# Altium footprint library Jamper.PcbLib: 16 footprints
Each footprint in its own frame and in the unit in brackets; x right, y up, seen from the top. Pads: shape width x height; smd on the part's side, far side on the other; paste and mask are expansions set on the pad; w line width, h text height; cw(c..) or ccw(c..) is an arc to the next point about the centre after c.
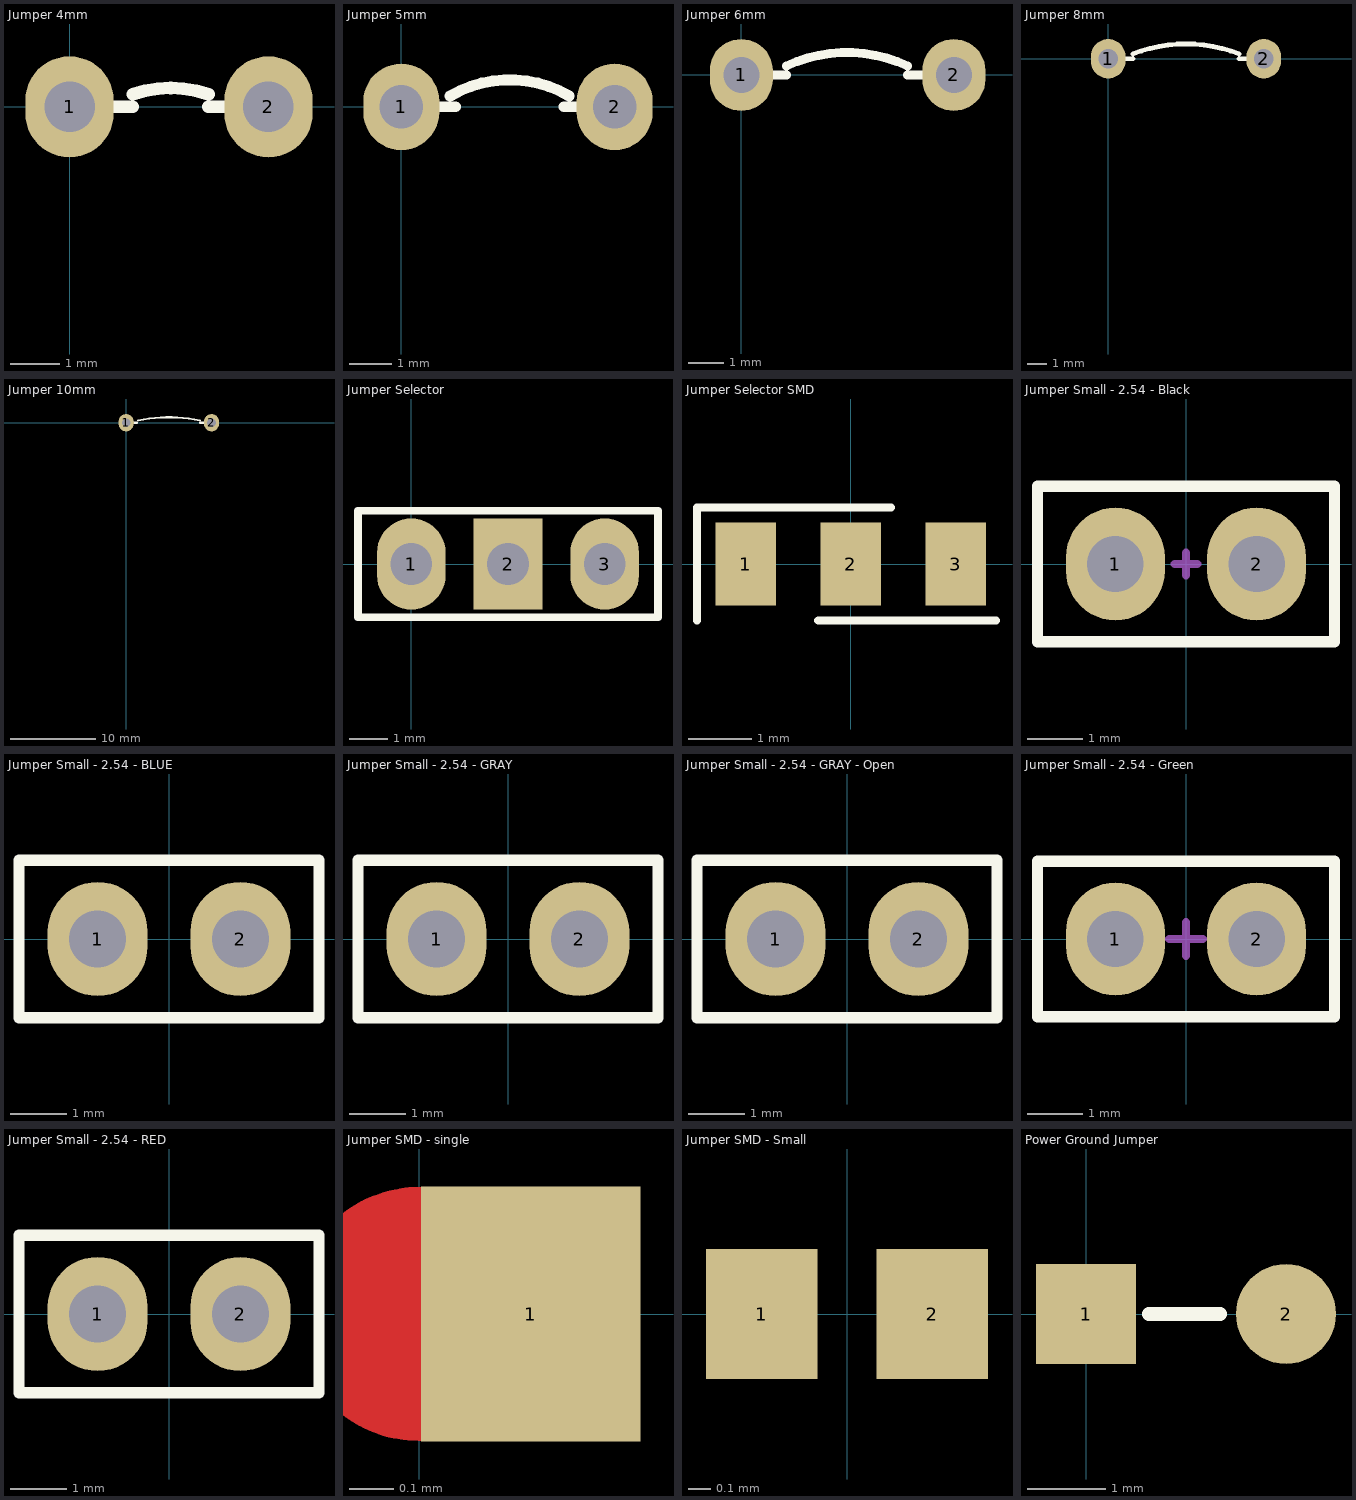
[diagram p0: the footprints below, top view; thin cyan lines are the x and y axes]

## Jumper 4mm [mil] "Designer Abbas Basereh"
height 300
pads (2):
  oval 70x80 hole 40: 1(0,0) 2(157.48,0)
Top Overlay:
  lines w10: 0,0 50,0 ; 50,10 cw(c80,-77.5) 110,10 ; 110,0 150,0
Mechanical 15:
  lines w5.91: -7.87,0 7.87,0 ; 0,-7.87 0,7.87

## Jumper 5mm [mil] "Designer Abbas Basereh"
height 300
pads (2):
  oval 70x80 hole 40: 1(0,0) 2(196.85,0)
Top Overlay:
  lines w10: 0,0 50,0 ; 45,10 cw(c100,-83.33) 155,10 ; 150,0 200,0
Mechanical 15:
  lines w5.91: -7.87,0 7.87,0 ; 0,-7.87 0,7.87

## Jumper 6mm [mil] "Designer Abbas Basereh"
height 300
pads (2):
  oval 70x80 hole 40: 1(0,0) 2(236.22,0)
Top Overlay:
  lines w10: 0,0 50,0 ; 50,10 cw(c117.5,-134.17) 185,10 ; 185,0 235,0
Mechanical 15:
  lines w5.91: -7.87,0 7.87,0 ; 0,-7.87 0,7.87

## Jumper 8mm [mil] "Designer Abbas Basereh"
height 300
pads (2):
  oval 70x80 hole 40: 1(0,0) 2(314.96,0)
Top Overlay:
  lines w10: 0,0 50,0 ; 50,10 cw(c157.5,-268.75) 265,10 ; 265,0 315,0
Mechanical 15:
  lines w5.91: -7.87,0 7.87,0 ; 0,-7.87 0,7.87

## Jumper 10mm [mil] "Designer Abbas Basereh"
height 300
pads (2):
  oval 70x80 hole 40: 1(0,0) 2(393.7,0)
Top Overlay:
  lines w10: 0,0 50,0 ; 55,10 cw(c197.5,-659.17) 340,10 ; 340,0 390,0
Mechanical 15:
  lines w5.91: -7.87,0 7.87,0 ; 0,-7.87 0,7.87

## Jumper Selector [mm]
pads (3):
  oval 1.8x2.4 hole 1.1: 1(0,0) 3(5.08,0)
  rect 1.8x2.4 hole 1.1: 2(2.54,0)
Top Overlay:
  lines w0.2: -1.4,-1.4 6.48,-1.4 6.48,1.4 -1.4,1.4 -1.4,-1.4
3D body "Header3.STEP": height 8.38, standoff -2.54, extent -1.245,-1.27 6.375,1.27
3D body: height 10.16, standoff 3.05, extent -1.245,-1.27 3.835,1.27

## Jumper Selector SMD [mm]
pads (3):
  rect 0.95x1.3 smd: 1(-1.65,0) 2(0,0) 3(1.65,0)
Top Overlay:
  lines w0.127: -2.413,-0.889 -2.413,0.889 0.635,0.889 ; -0.508,-0.889 2.286,-0.889
3D body "0805.STEP": height 0.6, standoff 0, extent -1.854,-0.635 0.178,0.635

## Jumper Small - 2.54 - Black [mil] "Designer Abbas Basereh"
height 300
pads (2):
  oval 70x80 hole 40: 1(-50,0) 2(50,0)
Top Overlay:
  lines w7.87: -105.12,-55.12 -105.12,55.12 105.12,55.12 105.12,-55.12 -105.12,-55.12
Mechanical 15:
  lines w5.91: -7.87,0 7.87,0 ; 0,-7.87 0,7.87 ; -106.3,-55.12 -106.3,55.12 106.3,55.12 106.3,-55.12 -106.3,-55.12
3D body "header02.STEP": height 330, standoff -100, extent -100,-50 100,50
3D body "jumper_akspt_g-red.STEP": height 337.4, standoff 102.36, extent -98.03,-48.03 98.04,48.04

## Jumper Small - 2.54 - BLUE [mil]
pads (2):
  oval 70x80 hole 40: 1(-50,0) 2(50,0)
Top Overlay:
  lines w7.87: -105.12,-55.12 -105.12,55.12 105.12,55.12 105.12,-55.12 -105.12,-55.12
3D body "header02.STEP": height 330, standoff -100, extent -100,-50 100,50
3D body "jumper_akspt_z-blue.STEP": height 337.4, standoff 102.36, extent -98.03,-48.03 98.03,48.03

## Jumper Small - 2.54 - GRAY [mil]
pads (2):
  oval 70x80 hole 40: 1(-50,0) 2(50,0)
Top Overlay:
  lines w7.87: -105.12,-55.12 105.12,-55.12 105.12,55.12 -105.12,55.12 -105.12,-55.12
3D body "jumper_akspt_g-grey.STEP": height 337.4, standoff 102.36, extent -98.03,-48.03 98.03,48.03
3D body "header02.STEP": height 330, standoff -100, extent -100,-50 100,50

## Jumper Small - 2.54 - GRAY - Open [mil]
pads (2):
  oval 70x80 hole 40: 1(-50,0) 2(50,0)
Top Overlay:
  lines w7.87: -105.12,-55.12 -105.12,55.12 105.12,55.12 105.12,-55.12 -105.12,-55.12
3D body "header02.STEP": height 330, standoff -100, extent -100,-50 100,50
3D body "jumper_akspt_g-grey.STEP": height 337.4, standoff 102.36, extent 2.75,-48.03 198.82,48.03

## Jumper Small - 2.54 - Green [mil] "Designer Abbas Basereh"
height 300
pads (2):
  oval 70x80 hole 40: 1(-50,0) 2(50,0)
Top Overlay:
  lines w7.87: -105.12,-55.12 105.12,-55.12 105.12,55.12 -105.12,55.12 -105.12,-55.12
Mechanical 15:
  lines w5.91: -11.81,0 11.81,0 ; 0,-11.81 0,11.81 ; -106.3,-55.12 -106.3,55.12 106.3,55.12 106.3,-55.12 -106.3,-55.12
3D body "jumper_akspt_g-red.STEP": height 337.4, standoff 102.36, extent -98.03,-48.03 98.04,48.04
3D body "header02.STEP": height 330, standoff -100, extent -100,-50 100,50

## Jumper Small - 2.54 - RED [mil]
pads (2):
  oval 70x80 hole 40: 1(-50,0) 2(50,0)
Top Overlay:
  lines w7.87: -105.12,-55.12 -105.12,55.12 105.12,55.12 105.12,-55.12 -105.12,-55.12
3D body "header02.STEP": height 330, standoff -100, extent -100,-50 100,50
3D body "jumper_akspt_g-red.STEP": height 337.4, standoff 102.36, extent -98.03,-48.03 98.03,48.03

## Jumper SMD - single [mm]
pads (1):
  rect 0.5x0.58 smd paste+0 mask+0: 1(0.254,0)
Top Layer:
  lines w0.3: 0.097,-0.1 cw(c0,0) 0.099,-0.099

## Jumper SMD - Small [mm]
pads (2):
  rect 0.5x0.58 smd paste+0 mask+0: 1(-0.381,0) 2(0.381,0)

## Power Ground Jumper [mil]
pads (2):
  rect 50x50 smd: 1(0,0)
  round 50 smd: 2(100,0)
Top Overlay:
  lines w7: 31.5,0 66.93,0